# EAGLE library part NK5110-MONOLCD (library arno)
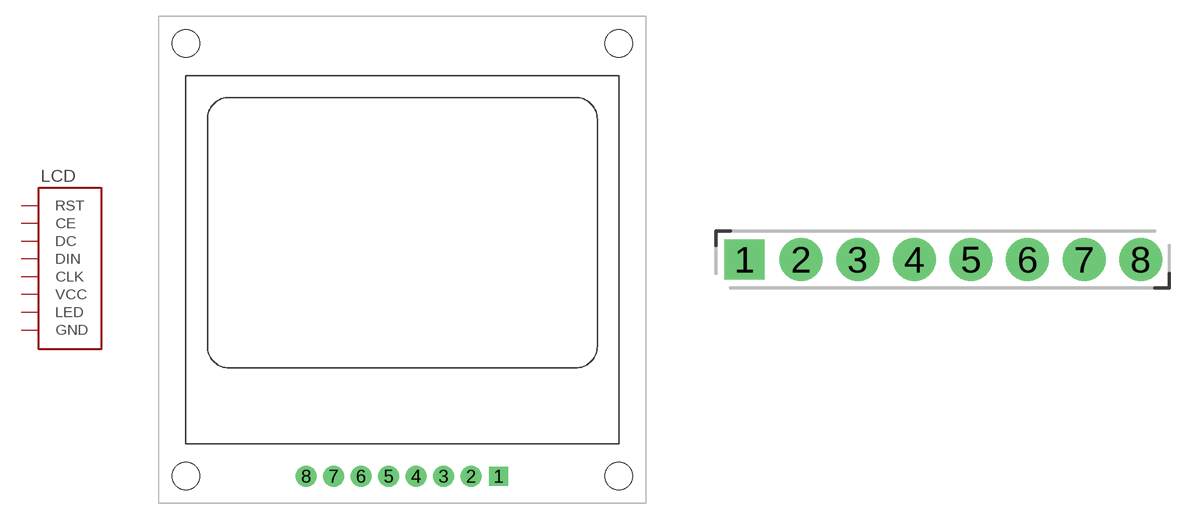
[diagram p8: symbol with the pads of NK5110-FULL; footprints NK5110-FULL, NK5110-HEADER]

Designator prefix LCD

## NK5110-MONOLCD-ONBRD  [NK5110-FULL]
1  RST
2  CE
3  DC
4  DIN
5  CLK
6  VCC
7  LED
8  GND

## NK5110-MONOLCD-HDR  [NK5110-HEADER]
Pads as for NK5110-FULL

## Footprint NK5110-FULL (pad centres in mm)
drill 1.016 pad 1.778 square: 1 8.89,-21.59
drill 1.016 pad 1.93: 2 6.35,-21.59; 3 3.81,-21.59; 4 1.27,-21.59; 5 -1.27,-21.59; 6 -3.81,-21.59; 7 -6.35,-21.59; 8 -8.89,-21.59
hole 2.54 at 20,-21.59
hole 2.54 at -20,-21.59
hole 2.54 at 20,18.41
hole 2.54 at -20,18.41

## Footprint NK5110-HEADER (pad centres in mm)
drill 1.016 pad 1.778 square: 1 -8.89,0
drill 1.016 pad 1.93: 2 -6.35,0; 3 -3.81,0; 4 -1.27,0; 5 1.27,0; 6 3.81,0; 7 6.35,0; 8 8.89,0